# Altium footprint library DRV8833_Module.PcbLib: 1 footprints
Each footprint in its own frame and in the unit in brackets; x right, y up, seen from the top. Pads: shape width x height; smd on the part's side, far side on the other; paste and mask are expansions set on the pad; w line width, h text height; cw(c..) or ccw(c..) is an arc to the next point about the centre after c.
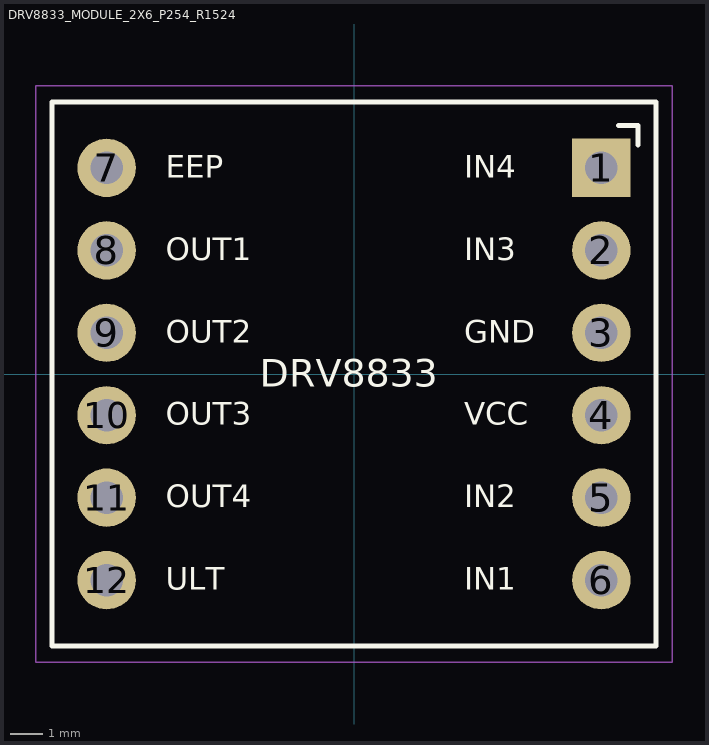
[diagram p0: the footprint, top view; thin cyan lines are the x and y axes]

## DRV8833_MODULE_2X6_P254_R1524 [mm] "DRV8833 module, top view; P2.54, row 15.24 mm; direct male header mounting; supplied STEP A"
pads (12):
  rect 1.8x1.8 hole 1 mask+0.1: 1(7.62,6.35)
  round 1.8 hole 1 mask+0.1: 2(7.62,3.81) 3(7.62,1.27) 4(7.62,-1.27) 5(7.62,-3.81) 6(7.62,-6.35) 7(-7.62,6.35) 8(-7.62,3.81) 9(-7.62,1.27) 10(-7.62,-1.27) 11(-7.62,-3.81) 12(-7.62,-6.35)
Top Overlay:
  lines w0.15: 8.15,7.65 8.75,7.65 8.75,7.05 ; -9.3,-8.375 9.3,-8.375 9.3,8.375 -9.3,8.375 -9.3,-8.375
  text "IN4" at 3.4,6.05 h0.7
  text "IN3" at 3.4,3.51 h0.7
  text "GND" at 3.4,0.97 h0.7
  text "VCC" at 3.4,-1.57 h0.7
  text "IN2" at 3.4,-4.11 h0.7
  text "IN1" at 3.4,-6.65 h0.7
  text "EEP" at -5.8,6.05 h0.7
  text "OUT1" at -5.8,3.51 h0.7
  text "OUT2" at -5.8,0.97 h0.7
  text "OUT3" at -5.8,-1.57 h0.7
  text "OUT4" at -5.8,-4.11 h0.7
  text "ULT" at -5.8,-6.65 h0.7
  text "DRV8833" at -2.9,-0.4 h0.85
Mechanical 13:
  lines w0.1: -9.3,-8.375 9.3,-8.375 9.3,8.375 -9.3,8.375 -9.3,-8.375
Mechanical 15:
  lines w0.05: -9.8,-8.875 9.8,-8.875 9.8,8.875 -9.8,8.875 -9.8,-8.875
3D body "Modulo_DRV8833_A.stp": height 5.9, standoff 0, extent -9.3,-8.375 9.3,8.375